# Altium footprint library SENSORS.PcbLib: 2 footprints
Each footprint in its own frame and in the unit in brackets; x right, y up, seen from the top. Pads: shape width x height; smd on the part's side, far side on the other; paste and mask are expansions set on the pad; w line width, h text height; cw(c..) or ccw(c..) is an arc to the next point about the centre after c.
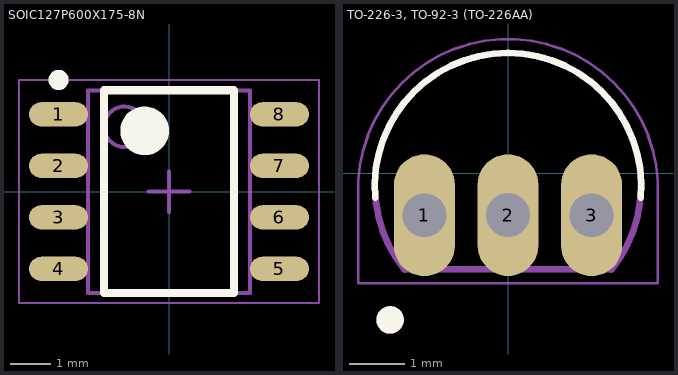
[diagram p0: the footprints below, top view; thin cyan lines are the x and y axes]

## SOIC127P600X175-8N [mm] "SOIC, 8-Leads, Body 4,90x3,90mm, Pitch 1,27mm, IPC Medium Density"
height 1.75
pads (8):
  oval 1.45x0.6 smd: 1(-2.725,1.905) 2(-2.725,0.635) 3(-2.725,-0.635) 4(-2.725,-1.905) 5(2.725,-1.905) 6(2.725,-0.635) 7(2.725,0.635) 8(2.725,1.905)
Top Overlay:
  circle w0.6: c-0.6,1.5 r0.3
  circle w0.25: c-2.725,2.755 r0.125
  lines w0.2: -1.6,-2.5 1.6,-2.5 1.6,2.5 -1.6,2.5 -1.6,-2.5
Mechanical 13:
  circle w0.1: c-1.1,1.6 r0.5
  lines w0.1: -2,-2.5 2,-2.5 2,2.5 -2,2.5 -2,-2.5
Mechanical 15:
  lines w0.05: -3.7,-2.75 3.7,-2.75 3.7,2.75 -3.7,2.75 -3.7,-2.75
  lines w0.1: -0.5,0 0.5,0 ; 0,-0.5 0,0.5
3D body: height 1.75, standoff 0.25, extent -2,-2.5 2,2.5

## TO-226-3, TO-92-3 (TO-226AA) [mm]
pads (3):
  oval 1.11x2.22 hole 0.8: 1(-1.524,-0.762) 2(0,-0.76) 3(1.524,-0.762)
Top Overlay:
  circle w0.25: c-2.15,-2.67 r0.125
  lines w0.12: -2.421,-0.444 cw(c0,-0.232) 2.421,-0.444
Mechanical 13:
  circle w0.25: c-2.15,-2.67 r0.125
  lines w0.12: -1.893,-1.748 1.892,-1.748 ; -1.886,-1.756 cw(c-0.001,-0.229) 1.885,-1.756
Mechanical 15:
  lines w0.05: -2.731,-0.426 cw(c0,-0.283) 2.731,-0.426 ; -2.73,-0.45 -2.73,-2 2.73,-2 2.73,-0.45
3D body "DS18B20--3DModel-STEP-56544.STEP": height 15.45, standoff -5, extent -2.285,-1.841 2.285,1.778